# Altium schematic symbol library si4735_RX_MIET.SCHLIB: 29 symbols
Pins are listed as number, name and electrical type; pins without a type are passive.

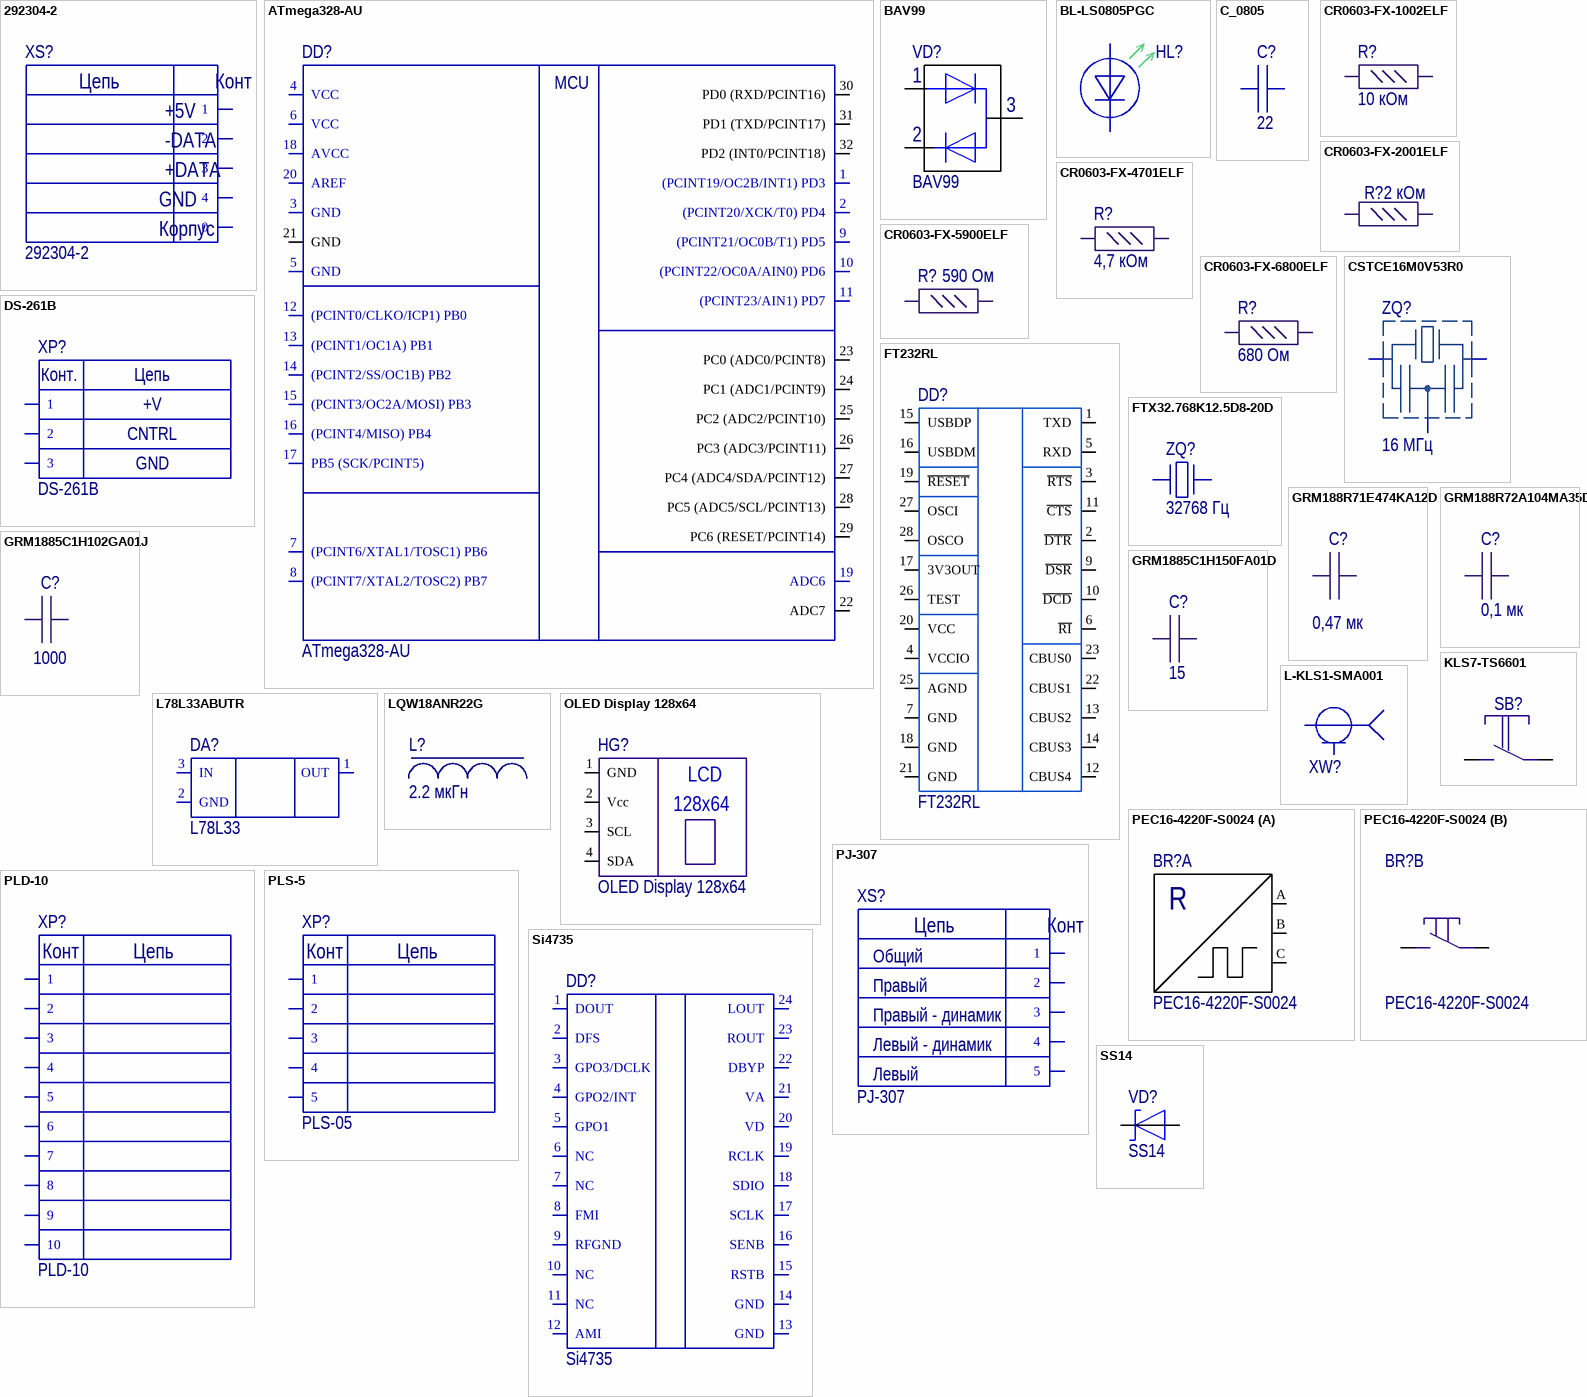
[diagram p0: symbols 292304-2 to SS14]

## 292304-2
designator XS?
footprint USB-B
pins: 0, 1, 2, 3, 4
text: Цепь; Конт; +5V; -DATA; +DATA; GND; Корпус

## ATmega328-AU
designator DD?
footprint TQFP32 (TQFP, 32-Leads, Body 7,00x7,00mm, Pitch 0,80mm, IPC Medium Density)
pins: 1 (PCINT19/OC2B/INT1) PD3, 2 (PCINT20/XCK/T0) PD4, 3 GND, 4 VCC, 5 GND, 6 VCC, 7 (PCINT6/XTAL1/TOSC1) PB6, 8 (PCINT7/XTAL2/TOSC2) PB7, 9 (PCINT21/OC0B/T1) PD5, 10 (PCINT22/OC0A/AIN0) PD6, 11 (PCINT23/AIN1) PD7, 12 (PCINT0/CLKO/ICP1) PB0, 13 (PCINT1/OC1A) PB1, 14 (PCINT2/SS/OC1B) PB2, 15 (PCINT3/OC2A/MOSI) PB3, 16 (PCINT4/MISO) PB4, 17 PB5 (SCK/PCINT5), 18 AVCC, 19 ADC6, 20 AREF, 21 GND, 22 ADC7, 23 PC0 (ADC0/PCINT8), 24 PC1 (ADC1/PCINT9), 25 PC2 (ADC2/PCINT10), 26 PC3 (ADC3/PCINT11), 27 PC4 (ADC4/SDA/PCINT12), 28 PC5 (ADC5/SCL/PCINT13), 29 PC6 (RESET/PCINT14), 30 PD0 (RXD/PCINT16), 31 PD1 (TXD/PCINT17), 32 PD2 (INT0/PCINT18)
text: MCU

## BAV99
designator VD?
HelpURL: https://www.vishay.com/docs/85718/bav99.pdf
footprint SOT23 (SOT23, 3-Leads, Body 2,90x2,45mm, Pitch 0,95mm, IPC Medium Density)
pins: 1 A1, 2 C2, 3 C1A2

## BL-LS0805PGC
designator HL?  (value not drawn)
footprint LED_0805_GREEN
pins: 1, 2

## C_0805
designator C?, comment 22
footprint C_0805 (Chip Capacitor, 2-Leads, Body 2,00x1,25mm, IPC Medium Density)
pins: 1, 2

## CR0603-FX-1002ELF
designator R?, comment 10 кОм
RES SMD 10K OHM 1% 1/10W 0603; Part Number: CR0603-FX-1002ELF; Manufacturer: Bourns Inc.; Value: 10 кОм; ComponentLink1URL: https://www.bourns.com/pdfs/chpreztr.pdf; ComponentLink1Description: Datasheet; Component Type: Resistor
footprint R_0603
pins: 1, 2

## CR0603-FX-2001ELF
designator R?, comment 2 кОм
RES SMD 2K OHM 1% 1/10W 0603; Part Number: CR0603-FX-2001ELF; Manufacturer: Bourns Inc.; Value: 2 кОм; ComponentLink1URL: https://www.bourns.com/pdfs/chpreztr.pdf; ComponentLink1Description: Datasheet; Component Type: Resistor
footprint R_0603
pins: 1, 2

## CR0603-FX-4701ELF
designator R?, comment 4,7 кОм
RES SMD 4.7K OHM 1% 1/10W 0603; Part Number: CR0603-FX-4701ELF; Manufacturer: Bourns Inc.; Value: 4,7 кОм; ComponentLink1URL: https://www.bourns.com/pdfs/chpreztr.pdf; ComponentLink1Description: Datasheet; Component Type: Resistor
footprint R_0603
pins: 1, 2

## CR0603-FX-5900ELF
designator R?, comment 590 Ом
RES SMD 590 OHM 1% 1/10W 0603; Part Number: CR0603-FX-5900ELF; Manufacturer: Bourns Inc.; Value: 590 Ом; ComponentLink1URL: https://www.bourns.com/pdfs/chpreztr.pdf; ComponentLink1Description: Datasheet; Component Type: Resistor
footprint R_0603
pins: 1, 2

## CR0603-FX-6800ELF
designator R?, comment 680 Ом
RES SMD 680 OHM 1% 1/10W 0603; Part Number: CR0603-FX-6800ELF; Manufacturer: Bourns Inc.; Value: 680 Ом; ComponentLink1URL: https://www.bourns.com/pdfs/chpreztr.pdf; ComponentLink1Description: Datasheet; Component Type: Resistor
footprint R_0603
pins: 1, 2

## CSTCE16M0V53R0
designator ZQ?, comment 16 МГц
RESONATOR, CERAMIC, 16MHZ, SMD
footprint CSTCE
pins: 1, 2, 3

## DS-261B
designator XP?
footprint DS-261
pins: 1, 2, 3
text: Конт.; Цепь; +V; CNTRL; GND

## FT232RL
designator DD?
USB UART Asynchronous Serial Data Transfer Chip, SSOP-28, Pb-Free; PackageReference: SSOP-28 (MO-150-AH); PackageDescription: SOP, 28-Leads, Body 10,2x5,3mm (max), Pitch 0,65mm, IPC Low Density; Code_JEDEC: MO-150-AH; Temperature Range: *
footprint SSOP-28 (MO-150-AH) (SOP, 28-Leads, Body 10,2x5,3mm (max), Pitch 0,65mm, IPC Low Density)
footprint SSOP-28 (MO-150-AH) (SOP, 28-Leads, Body 10,2x5,3mm (max), Pitch 0,65mm, IPC Low Density)
pins: 1 TXD, 2 ~{DTR}, 3 ~{RTS}, 4 VCCIO, 5 RXD, 6 ~{RI}, 7 GND, 8 NC hidden, 9 ~{DSR}, 10 ~{DCD}, 11 ~{CTS}, 12 CBUS4, 13 CBUS2, 14 CBUS3, 15 USBDP, 16 USBDM, 17 3V3OUT, 18 GND, 19 ~{RESET}, 20 VCC, 21 GND, 22 CBUS1, 23 CBUS0, 24 NC hidden, 25 AGND, 26 TEST, 27 OSCI, 28 OSCO

## FTX32.768K12.5D8-20D
designator ZQ?, comment 32768 Гц
footprint DT-38T
pins: 1, 2

## GRM188R71E474KA12D
designator C?, comment 0,47 мк
CAP CER 0.47UF 25V X7R 0603; Part Number: GRM188R71E474KA12D; Manufacturer: Murata Electronics; Value: 0.47µF; ComponentLink1URL: https://www.murata.com/~/media/webrenewal/support/library/catalog/products/capacitor/mlcc/c02e.ashx?la=en-us; ComponentLink1Description: Datasheet; Component Type: Capasitor
footprint C_0603
pins: 1, 2

## GRM188R72A104MA35D
designator C?, comment 0,1 мк
CAP CER 0.1UF 100V X7R 0603; Part Number: GRM188R72A104MA35D; Manufacturer: Murata Electronics; Value: 0.1µF; ComponentLink1URL: https://search.murata.co.jp/Ceramy/image/img/A01X/G101/ENG/GRM188R72A104MA35-01.pdf; ComponentLink1Description: Datasheet; Component Type: Capasitor
footprint C_0603
pins: 1, 2

## GRM1885C1H102GA01J
designator C?, comment 1000
CAP CER 1000PF 50V C0G/NP0 0603; Part Number: GRM1885C1H102GA01J; Manufacturer: Murata Electronics; Value: 1000pF; ComponentLink1URL: https://www.murata.com/~/media/webrenewal/support/library/catalog/products/capacitor/mlcc/c02e.ashx?la=en-us; ComponentLink1Description: Datasheet; Component Type: Capasitor
footprint C_0603
pins: 1, 2

## GRM1885C1H150FA01D
designator C?, comment 15
CAP CER 15PF 50V C0G/NP0 0603; Part Number: GRM1885C1H150FA01D; Manufacturer: Murata Electronics; Value: 15pF; ComponentLink1URL: https://www.murata.com/~/media/webrenewal/support/library/catalog/products/capacitor/mlcc/c02e.ashx?la=en-us; ComponentLink1Description: Datasheet; Component Type: Capasitor
footprint C_0603
pins: 1, 2

## KLS7-TS6601
designator SB?  (value not drawn)
footprint KLS7-TS6601
pins: 1, 2

## L78L33ABUTR
designator DA?, comment L78L33
footprint SOT89 (SOT89, 3-Leads, Body 4.50x2.45mm, Pitch 1.50mm, Lead Span 4.1mm, IPC Medium Density)
pins: 1 OUT, 2 GND, 3 IN

## L-KLS1-SMA001
designator XW?  (value not drawn)
footprint SMA
pins: 1, 2

## LQW18ANR22G
designator L?, comment 2.2 мкГн
0.22 мкГн, 0603, 2%
footprint LQW18A
pins: 1, 2

## OLED Display 128x64
designator HG?
footprint OLED Display 128x64
pins: 1 GND, 2 Vcc, 3 SCL, 4 SDA
text: LCD; 128x64

## PEC16-4220F-S0024
designator BR?
footprint PEC16-4220F
part A pins: A, B, C
part B pins: D, E
part A text: R

## PJ-307
designator XS?
footprint PJ-307
pins: 1, 2, 3, 4, 5
text: Цепь; Конт; Общий; Правый; Правый - динамик; Левый - динамик; Левый

## PLD-10
designator XP?
footprint PLD-10
pins: 1, 2, 3, 4, 5, 6, 7, 8, 9, 10
text: Конт; Цепь

## PLS-5
designator XP?, comment PLS-05
footprint PLS-5
pins: 1, 2, 3, 4, 5
text: Конт; Цепь

## Si4735
designator DD?
BROADCAST AM/FM/SW/LW RADIO RECEIVER
footprint SSOP-24 (SOP, 24-Leads, Body 8.65x3.90mm, Pitch 0.64mm, IPC Medium Density)
pins: 1 DOUT, 2 DFS, 3 GPO3/DCLK, 4 GPO2/INT, 5 GPO1, 6 NC, 7 NC, 8 FMI, 9 RFGND, 10 NC, 11 NC, 12 AMI, 13 GND, 14 GND, 15 RSTB, 16 SENB, 17 SCLK, 18 SDIO, 19 RCLK, 20 VD, 21 VA, 22 DBYP, 23 ROUT, 24 LOUT

## SS14
designator VD?
footprint DO-214AC
pins: 1, 2